# EAGLE library part VOLTAGE_CONVERSION_MODULE_V1 (library PedalSync_Module_Footprint_Library_v2)
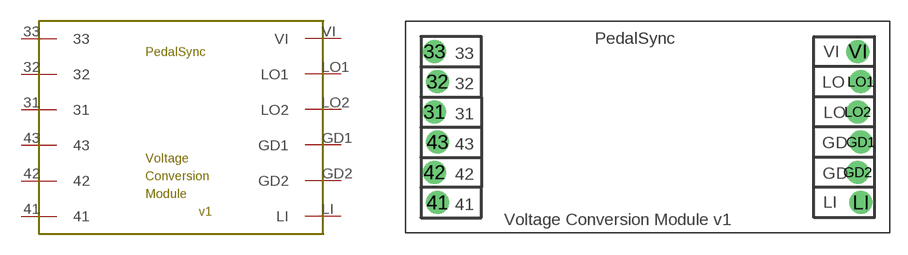
[diagram p0: symbol with the pads of VOLTAGE_CONVERSION_MODULE_V1; footprint VOLTAGE_CONVERSION_MODULE_V1]

Designator prefix -

## VOLTAGE_CONVERSION_MODULE_V1  [VOLTAGE_CONVERSION_MODULE_V1]
31  31
32  32
33  33
41  41
42  42
43  43
GD1  GD1
GD2  GD2
LI  LI
LO1  LO1
LO2  LO2
VI  VI

## Footprint VOLTAGE_CONVERSION_MODULE_V1 (pad centres in mm)
drill 0.9 pad 1.93 round: 31 -17.907,1.27; 32 -17.653,3.81; 33 -17.907,6.35; 41 -17.653,-6.35; 42 -17.907,-3.81; 43 -17.653,-1.27; GD1 17.907,-1.27; GD2 17.653,-3.81; LI 17.907,-6.35; LO1 17.907,3.81; LO2 17.653,1.27; VI 17.653,6.35